# EAGLE library part LT8618EDDB#TRPBF (library LT8618EDDB#TRPBF)
Switching Voltage Regulators High Efficiency 60V/100mA Synchronous Bu Source: Datasheet <https://www.mouser.ch/datasheet/2/609/lt8618_8618_3_3-1893268.pdf>
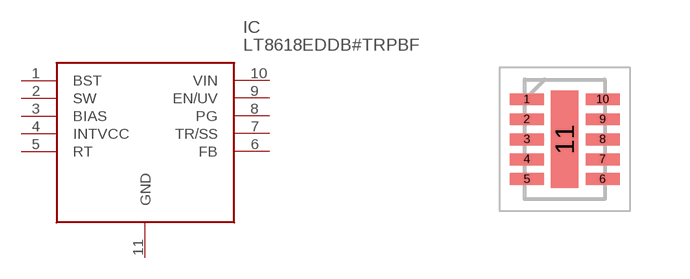
[diagram p0: symbol with the pads of SON50P200X300X80-11N; footprint SON50P200X300X80-11N]

Designator prefix IC

## LT8618EDDB#TRPBF (Description: Switching Voltage Regulators High Efficiency 60V/100mA Synchronous Bu; Height: 0.8mm; Manufacturer_Name: Analog Devices; Manufacturer_Part_Number: LT8618EDDB#TRPBF; Mouser_Part_Number: 584-LT8618EDDB#TRPBF; Mouser_Price-Stock: https://www.mouser.co.uk/ProductDetail/Analog-Devices/LT8618EDDBTRPBF?qs=hWgE7mdIu5Ro6jCGwTYWww%3D%3D)  [SON50P200X300X80-11N]
1  BST
2  SW
3  BIAS
4  INTVCC
5  RT
6  FB
7  TR/SS
8  PG
9  EN/UV
10  VIN
11  GND

## Footprint SON50P200X300X80-11N (pad centres in mm)
10-LEAD (3mm × 2mm) PLASTIC DFN-1
smd 0.85 x 0.3: 1 -0.95,1; 2 -0.95,0.5; 3 -0.95,0; 4 -0.95,-0.5; 5 -0.95,-1; 6 0.95,-1; 7 0.95,-0.5; 8 0.95,0; 9 0.95,0.5; 10 0.95,1
smd 0.69 x 2.44: 11 0,0